# EAGLE library part SI8640 (library Fugu_LSI)
1Mbps, 2.5KVRMS Quad DIGITAL ISOLATOR
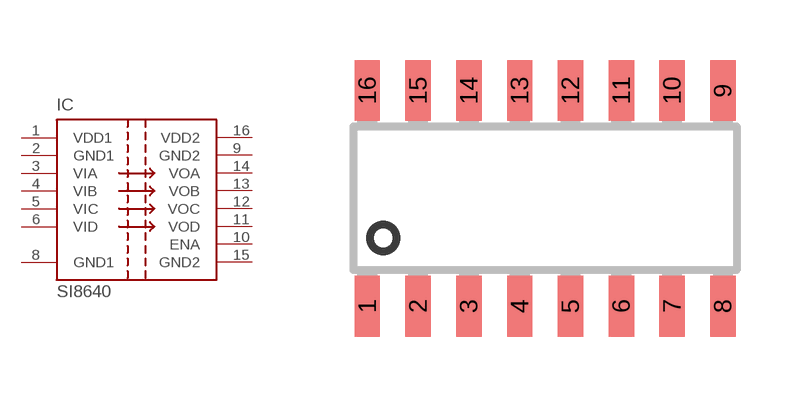
[diagram p33: symbol with the pads of SOIC16; footprint SOIC16]

Designator prefix IC

## SI8640  [SOIC16]
1  VDD1  pwr
2  GND1  sup
3  VIA  in
4  VIB  in
5  VIC  in
6  VID  in
8  GND1  sup
9  GND2  sup
10  ENA  pas
11  VOD  out
12  VOC  out
13  VOB  out
14  VOA  out
15  GND2  sup
16  VDD2  pwr

## Footprint SOIC16 (pad centres in mm)
SMALL OUTLINE INTEGRATED CIRCUIT 16-Pin (150-Mil) SOIC Source: http://www.cypress.com .. 38-12025_0P_V.pdf
smd 0.635 x 1.524: 1 -4.445,-2.695; 2 -3.175,-2.695; 3 -1.905,-2.695; 4 -0.635,-2.695; 5 0.635,-2.695; 6 1.905,-2.695; 7 3.175,-2.695; 8 4.445,-2.695; 9 4.445,2.695; 10 3.175,2.695; 11 1.905,2.695; 12 0.635,2.695; 13 -0.635,2.695; 14 -1.905,2.695; 15 -3.175,2.695; 16 -4.445,2.695